# EAGLE library part 691307400006 (library Wurth_Terminal_Blocks_Connectors_rev15d)
WR - TBL Serie 3074 - 7.62mm Reversed Gender Vertical PCB Header , 6 pins=>Code : WR-TBL_3074_691307400006 <http://katalog.we-online.de/media/images/eican/WR-TBL_3074_691307400003_pf2.jpg> Details see: http://katalog.we-online.de/en/em/691_307_400_0xx Created 2014-06-25, Karrer Zheng 2014 (C) Würth Elektronik
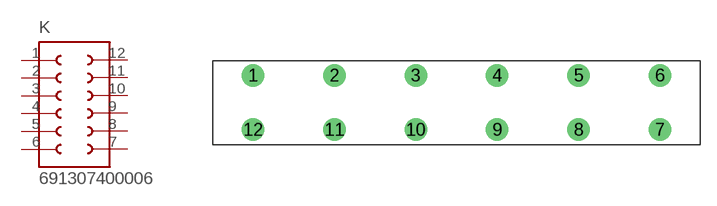
[diagram p194: symbol with the pads of 691307400006; footprint 691307400006]

Designator prefix K

## 691307400006  [691307400006]
1  1  pas
2  2  pas
3  3  pas
4  4  pas
5  5  pas
6  6  pas
7  7  pas
8  8  pas
9  9  pas
10  10  pas
11  11  pas
12  12  pas

## Footprint 691307400006 (pad centres in mm)
WR - TBL Serie 3074 - 7.62mm Reversed Gender Vertical PCB Header , 6 pins
drill 1.4: 1 -38.1,0; 2 -30.48,0; 3 -22.86,0; 4 -15.24,0; 5 -7.62,0; 6 0,0; 7 0,-5.08; 8 -7.62,-5.08; 9 -15.24,-5.08; 10 -22.86,-5.08; 11 -30.48,-5.08; 12 -38.1,-5.08